# Altium footprint library PcbLibRobotLine.PcbLib: 28 footprints (part 2 of 2)
Each footprint in its own frame and in the unit in brackets; x right, y up, seen from the top. Pads: shape width x height; smd on the part's side, far side on the other; paste and mask are expansions set on the pad; w line width, h text height; cw(c..) or ccw(c..) is an arc to the next point about the centre after c.
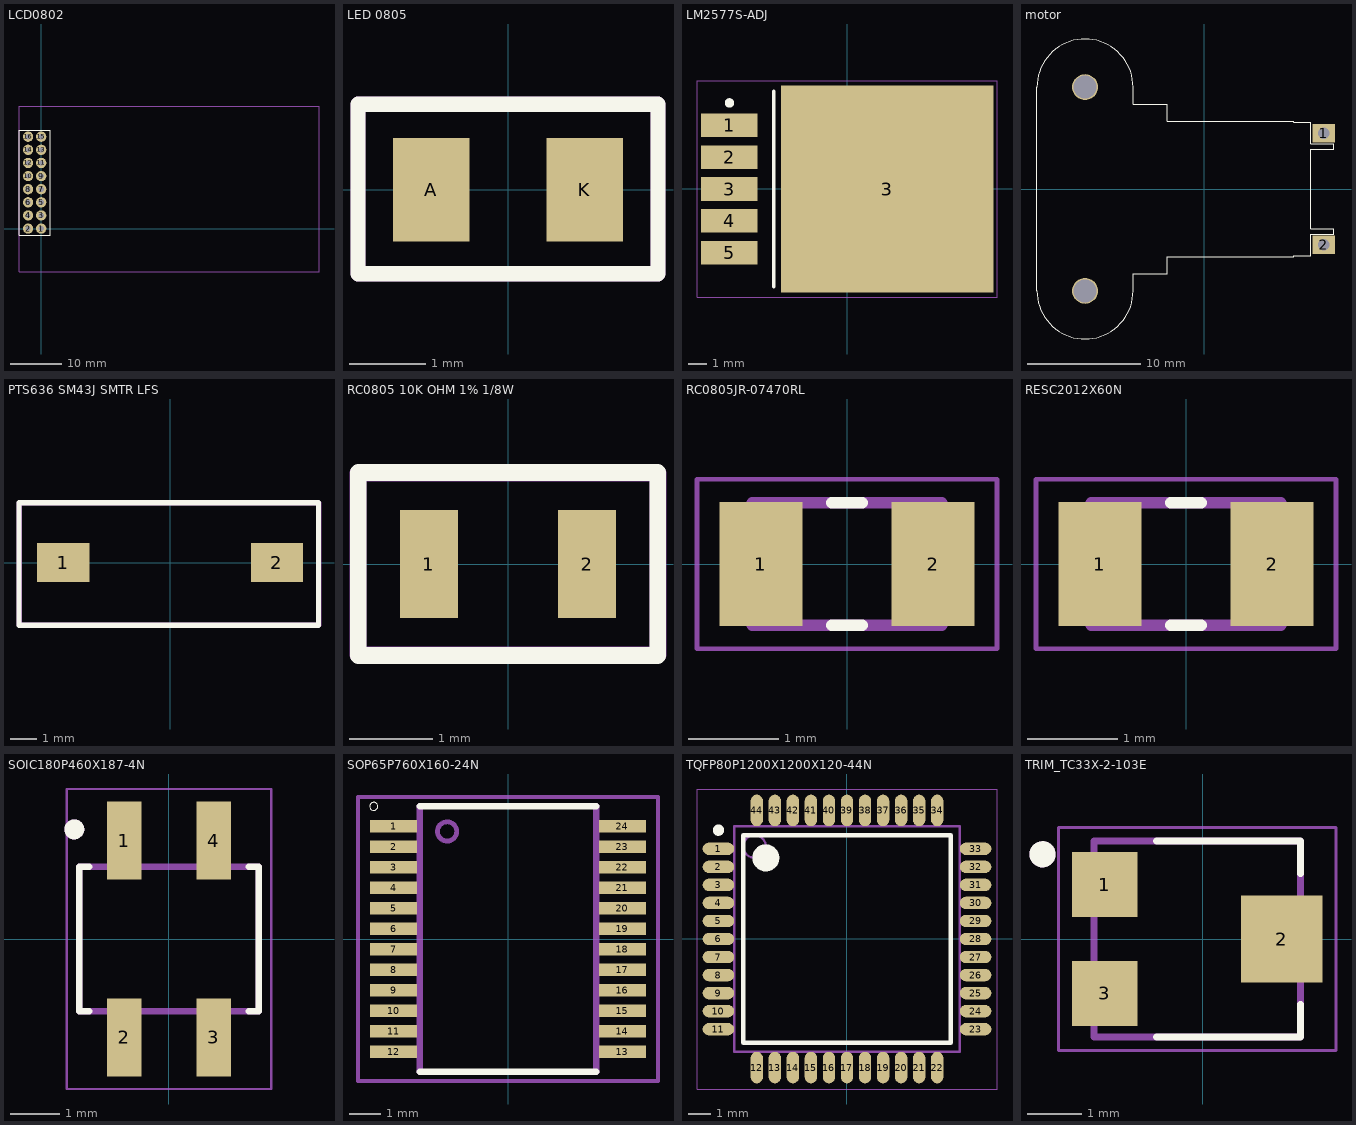
[diagram p1: the footprints below, top view; thin cyan lines are the x and y axes]

## LCD0802 [mm]
pads (16):
  round 2 hole 1: 1(0,0) 2(-2.54,0) 3(0,2.54) 4(-2.54,2.54) 5(0,5.08) 6(-2.54,5.08) 7(0,7.62) 8(-2.54,7.62) 9(0,10.16) 10(-2.54,10.16) 11(0,12.7) 12(-2.54,12.7) 13(0,15.24) 14(-2.54,15.24) 15(0,17.78) 16(-2.54,17.78)
Top Overlay:
  lines w0.127: -4.29,-1.27 -4.29,19.05 ; -4.281,-1.27 -1.524,-1.27 0.329,-1.27 1.753,-1.27 1.753,19.05 0.342,19.05 -1.511,19.05 -4.267,19.05
Mechanical 29 (Mech29):
  lines w0.127: -4.293,19.05 -4.293,23.698 53.797,23.698 53.797,-8.382 -4.29,-8.382 -4.29,19.05
  text "'.Designator'" at -3.556,19.228 h0.7
3D body "lcd_8x2.STEP": height 22.2, standoff 13.99, extent -4.242,-8.382 53.758,23.618

## LED 0805 [mm]
pads (2):
  rect 1x1.35 smd: A(-1,0) K(1,0)
Top Overlay:
  lines w0.2: -1.956,-1.092 1.956,-1.092 1.956,1.118 -1.956,1.118 -1.956,-1.092
Mechanical 29 (Mech29):
  lines w0.2: -1.956,-1.092 -1.956,1.118 1.956,1.118 1.956,-1.092 -1.956,-1.092
  text "'.Designator'" at -0.533,-0.559 h0.7
3D body "CHIPLED-0805.step": height 0.9, standoff -0.01, extent -1.05,-0.675 1.05,0.675

## LM2577S-ADJ [mm] "IC REG MULT CONFG ADJ 3A TO263"
pads (6):
  rect 3x1.25 smd: 1(-6.275,3.38) 2(-6.275,1.68) 3(-6.275,-0.02) 4(-6.275,-1.72) 5(-6.275,-3.42)
  rect 11.3x11 smd: 3(2.125,-0.02)
Top Overlay:
  circle w0.25: c-6.275,4.555 r0.125
  lines w0.2: -3.925,-5.22 -3.925,5.18
Mechanical 15:
  lines w0.1: -0.525,-0.02 0.475,-0.02 ; -0.025,-0.52 -0.025,0.48
Mechanical 29 (Mech29):
  lines w0.05: -8,-5.77 -8,5.73 7.95,5.73 7.95,-5.77 -8,-5.77
  lines w0.1: -2.825,-5.22 -2.825,5.18 6.065,5.18 6.065,-5.22 -2.825,-5.22
  text "'.Designator'" at -0.432,0.33 h0.7
3D body "LM2577S-ADJ-NOPB--3DModel-STEP-1.STEP": height 4.65, standoff -0.15, extent -7.201,-5.1 7.15,5.06

## motor [mil]
pads (4):
  rect 78.74x62.99 hole 39.37: 1(416,194)
  rect 78.74x62.99 hole 40: 2(416,-194)
  round 90 hole 80: ""(-414.21,354.33) ""(-414.21,-354.33)
Top Overlay:
  lines w0.5: -581.53,-354.33 ccw(c-414.21,-354.33) -246.89,-354.33 -246.89,-295.28 -128.78,-295.28 -128.78,-236.22 312.17,-235.37 312.17,-232.58 371.22,-232.58 371.22,-157.48 449.96,-157.48 449.96,-137.8 371.22,-137.8 371.22,137.8 449.96,137.8 449.96,157.48 371.22,157.48 371.22,232.58 312.17,232.58 312.17,236.22 -128.78,236.22 -128.78,295.28 -246.89,295.28 -246.89,354.33 ccw(c-414.21,354.33) -581.53,354.33 -581.53,-354.33
3D body "micro-metal-gearmotor-with-1086-bracket.step": height 460.63, standoff 0, extent -938.08,-521.65 450.5,521.65

## PTS636 SM43J SMTR LFS [mm]
pads (2):
  rect 2x1.5 smd: 1(-4.1,0) 2(4.1,0)
Top Overlay:
  lines w0.2: -5.8,-2.4 -5.8,2.3 5.7,2.3 5.7,-2.4 -5.8,-2.4
Mechanical 29 (Mech29):
  lines w0.2: -5.791,-2.388 -5.791,2.286 5.715,2.286 5.715,-2.388 -5.791,-2.388
  text "'.Designator'" at -1.956,-0.457 h0.7
3D body "PTS636 SM43J SMTR LFS--3DModel-STEP-56544.STEP": height 4.3, standoff 0, extent -3.55,-1.75 3.55,1.75

## RC0805 10K OHM 1% 1/8W [mm]
pads (2):
  rect 0.7x1.3 smd: 1(-0.95,0) 2(0.95,0)
Top Overlay:
  lines w0.2: -1.8,-1.1 -1.8,1.1 1.8,1.1 1.8,-1.1 -1.8,-1.1
Mechanical 29 (Mech29):
  lines w0.2: -1.803,-1.092 -1.803,1.092 1.803,1.092 1.803,-1.092 -1.803,-1.092
  text "'.Designator'" at -0.584,-0.457 h0.7
3D body "RC0805FR-0710KL.STEP": height 0.6, standoff 0, extent -1,-0.625 1,0.625

## RC0805JR-07470RL [mm] "470 Ohms ±5% 0.125W, 1/8W Chip Resistor 0805 (2012 Metric)  Thick Film"
pads (2):
  rect 0.92x1.38 smd: 1(-0.955,0) 2(0.955,0)
Top Overlay:
  lines w0.127: -0.17,-0.68 0.17,-0.68 ; -0.17,0.68 0.17,0.68
Mechanical 29 (Mech29):
  lines w0.05: -1.665,-0.94 1.665,-0.94 1.665,0.94 -1.665,0.94 -1.665,-0.94
  lines w0.127: -1.05,-0.68 1.05,-0.68 1.05,0.68 -1.05,0.68 -1.05,-0.68
  text "'.Designator'" at -0.914,-0.457 h0.7
3D body "RC0805JR-07470RL.STEP": height 0.6, standoff 0, extent -1,-0.625 1,0.625

## RESC2012X60N [mm]
pads (2):
  rect 0.92x1.38 smd: 1(-0.955,0) 2(0.955,0)
Top Overlay:
  lines w0.127: -0.17,-0.68 0.17,-0.68 ; -0.17,0.68 0.17,0.68
Mechanical 29 (Mech29):
  lines w0.05: -1.665,-0.94 -1.665,0.94 1.665,0.94 1.665,-0.94 -1.665,-0.94
  lines w0.127: -1.05,-0.68 1.05,-0.68 1.05,0.68 -1.05,0.68 -1.05,-0.68
  text "'.Designator'" at -0.711,-0.457 h0.7
3D body "RC0805JR-072K2L.STEP": height 0.6, standoff 0, extent -1,-0.625 1,0.625

## SOIC180P460X187-4N [mm]
pads (4):
  rect 0.69x1.57 smd: 1(-0.9,1.975) 2(-0.9,-1.975) 3(0.9,-1.975) 4(0.9,1.975)
Top Overlay:
  circle w0.2: c-1.9,2.2 r0.1
  lines w0.127: -1.6,-1.45 -1.8,-1.45 -1.8,1.45 -1.6,1.45 ; 1.6,-1.45 1.8,-1.45 1.8,1.45 1.6,1.45
Mechanical 13:
  circle w0.2: c-1.9,2.2 r0.1
  lines w0.127: -1.8,-1.45 -1.8,1.45 1.8,1.45 1.8,-1.45 -1.8,-1.45
Mechanical 29 (Mech29):
  lines w0.05: -2.05,-3.01 2.05,-3.01 2.05,3.01 -2.05,3.01 -2.05,-3.01
  text "'.Designator'" at -0.838,-0.381 h0.7
3D body "QRE1113GR.step": height 1.7, standoff -0.15, extent -1.8,-2.4 1.8,2.4

## SOP65P760X160-24N [mm]
pads (24):
  rect 1.5x0.4 smd: 1(-3.625,3.575) 2(-3.625,2.925) 3(-3.625,2.275) 4(-3.625,1.625) 5(-3.625,0.975) 6(-3.625,0.325) 7(-3.625,-0.325) 8(-3.625,-0.975) 9(-3.625,-1.625) 10(-3.625,-2.275) 11(-3.625,-2.925) 12(-3.625,-3.575) 13(3.625,-3.575) 14(3.625,-2.925) 15(3.625,-2.275) 16(3.625,-1.625) 17(3.625,-0.975) 18(3.625,-0.325) 19(3.625,0.325) 20(3.625,0.975) 21(3.625,1.625) 22(3.625,2.275) 23(3.625,2.925) 24(3.625,3.575)
Top Overlay:
  circle w0: c-4.25,4.2 r0.127
  lines w0.203: -2.8,-4.2 2.8,-4.2 ; -2.8,4.2 2.8,4.2
Mechanical 13:
  circle w0.152: c-1.928,3.406 r0.305
  region: -2.8,3.435 -3.811,3.435 -3.811,3.725 -2.8,3.725
  region: -2.8,2.78 -3.807,2.78 -3.807,3.075 -2.8,3.075
  region: -2.8,2.132 -3.812,2.132 -3.812,2.425 -2.8,2.425
  region: -2.8,1.478 -3.807,1.478 -3.807,1.775 -2.8,1.775
  region: -2.8,0.827 -3.808,0.827 -3.808,1.125 -2.8,1.125
  region: -2.8,0.175 -3.807,0.175 -3.807,0.475 -2.8,0.475
  region: -2.8,-0.476 -3.812,-0.476 -3.812,-0.175 -2.8,-0.175
  region: -2.8,-1.127 -3.808,-1.127 -3.808,-0.825 -2.8,-0.825
  region: -2.8,-1.78 -3.81,-1.78 -3.81,-1.475 -2.8,-1.475
  region: -2.8,-2.432 -3.81,-2.432 -3.81,-2.125 -2.8,-2.125
  region: -2.8,-3.081 -3.808,-3.081 -3.808,-2.775 -2.8,-2.775
  region: -2.8,-3.733 -3.808,-3.733 -3.808,-3.425 -2.8,-3.425
  region: 3.8,0.175 2.807,0.175 2.807,0.475 3.8,0.475
  region: 3.8,0.827 2.807,0.827 2.807,1.125 3.8,1.125
  region: 3.8,2.126 2.802,2.126 2.802,2.425 3.8,2.425
  region: 3.8,2.781 2.806,2.781 2.806,3.075 3.8,3.075
  region: 3.8,3.431 2.805,3.431 2.805,3.725 3.8,3.725
  region: 3.8,-3.731 2.805,-3.731 2.805,-3.425 3.8,-3.425
  region: 3.8,-3.084 2.808,-3.084 2.808,-2.775 3.8,-2.775
  region: 3.8,-1.777 2.803,-1.777 2.803,-1.475 3.8,-1.475
  region: 3.8,-1.128 2.808,-1.128 2.808,-0.825 3.8,-0.825
  region: 3.8,-0.476 2.806,-0.476 2.806,-0.175 3.8,-0.175
  region: 3.8,1.478 2.805,1.478 2.805,1.775 3.8,1.775
  region: 3.8,-2.428 2.804,-2.428 2.804,-2.125 3.8,-2.125
  lines w0.203: -2.8,-4.2 -2.8,4.2 ; 2.8,-4.2 2.8,4.2
Mechanical 29 (Mech29):
  lines w0.127: -4.75,-4.5 4.75,-4.5 4.75,4.5 -4.75,4.5 -4.75,-4.5
  text "'.Designator'" at -1.905,-0.305 h0.7
3D body "SSOP24-P-300-0p65A_TOS.step": height 1.6, standoff 0, extent -3.8,-4.15 3.8,4.15

## TQFP80P1200X1200X120-44N [mm] "TQFP, 44-Leads, Body 10.00x10.00mm, Pitch 0.80mm, IPC Medium Density"
height 1.2
pads (44):
  oval 1.4x0.55 smd: 1(-5.7,4) 2(-5.7,3.2) 3(-5.7,2.4) 4(-5.7,1.6) 5(-5.7,0.8) 6(-5.7,0) 7(-5.7,-0.8) 8(-5.7,-1.6) 9(-5.7,-2.4) 10(-5.7,-3.2) 11(-5.7,-4) 23(5.7,-4) 24(5.7,-3.2) 25(5.7,-2.4) 26(5.7,-1.6) 27(5.7,-0.8) 28(5.7,0) 29(5.7,0.8) 30(5.7,1.6) 31(5.7,2.4) 32(5.7,3.2) 33(5.7,4)
  oval 0.55x1.4 smd: 12(-4,-5.7) 13(-3.2,-5.7) 14(-2.4,-5.7) 15(-1.6,-5.7) 16(-0.8,-5.7) 17(0,-5.7) 18(0.8,-5.7) 19(1.6,-5.7) 20(2.4,-5.7) 21(3.2,-5.7) 22(4,-5.7) 34(4,5.7) 35(3.2,5.7) 36(2.4,5.7) 37(1.6,5.7) 38(0.8,5.7) 39(0,5.7) 40(-0.8,5.7) 41(-1.6,5.7) 42(-2.4,5.7) 43(-3.2,5.7) 44(-4,5.7)
Top Overlay:
  circle w0.25: c-5.7,4.825 r0.125
  circle w0.6: c-3.6,3.6 r0.3
  lines w0.2: -4.6,-4.6 -4.6,4.6 4.6,4.6 4.6,-4.6 -4.6,-4.6
Mechanical 13:
  circle w0.1: c-4.1,4.1 r0.5
  lines w0.1: -5,-5 -5,5 5,5 5,-5 -5,-5
Mechanical 29 (Mech29):
  lines w0.05: -6.65,-6.65 6.65,-6.65 6.65,6.65 -6.65,6.65 -6.65,-6.65
  text "'.Designator'" at -2.464,0.229 h0.7
3D body "TQFP44_MC_MCH-L.step": height 1.2, standoff 0, extent -6,-6 6,6

## TRIM_TC33X-2-103E [mm]
pads (3):
  rect 1.2x1.2 smd: 1(-1.8,1) 3(-1.8,-1)
  rect 1.5x1.6 smd: 2(1.45,0)
Top Overlay:
  circle w0.24: c-2.946,1.558 r0.12
  lines w0.127: -0.85,-1.8 1.8,-1.8 1.8,-1.2 ; -0.85,1.8 1.8,1.8 1.8,1.2
Mechanical 13:
  circle w0.24: c-2.946,1.558 r0.12
  lines w0.127: -2,-1.8 -2,1.8 1.8,1.8 1.8,-1.8 -2,-1.8
Mechanical 29 (Mech29):
  lines w0.05: -2.65,-2.05 -2.65,2.05 2.45,2.05 2.45,-2.05 -2.65,-2.05
  text "'.Designator'" at -1.041,-0.356 h0.7
3D body "step_temp.STEP": height 1.3, standoff 0.1, extent -1.9,-1.5 1.9,1.5